# Altium footprint library chip.PcbLib: 89 footprints (part 4 of 6)
Each footprint in its own frame and in the unit in brackets; x right, y up, seen from the top. Pads: shape width x height; smd on the part's side, far side on the other; paste and mask are expansions set on the pad; w line width, h text height; cw(c..) or ccw(c..) is an arc to the next point about the centre after c.
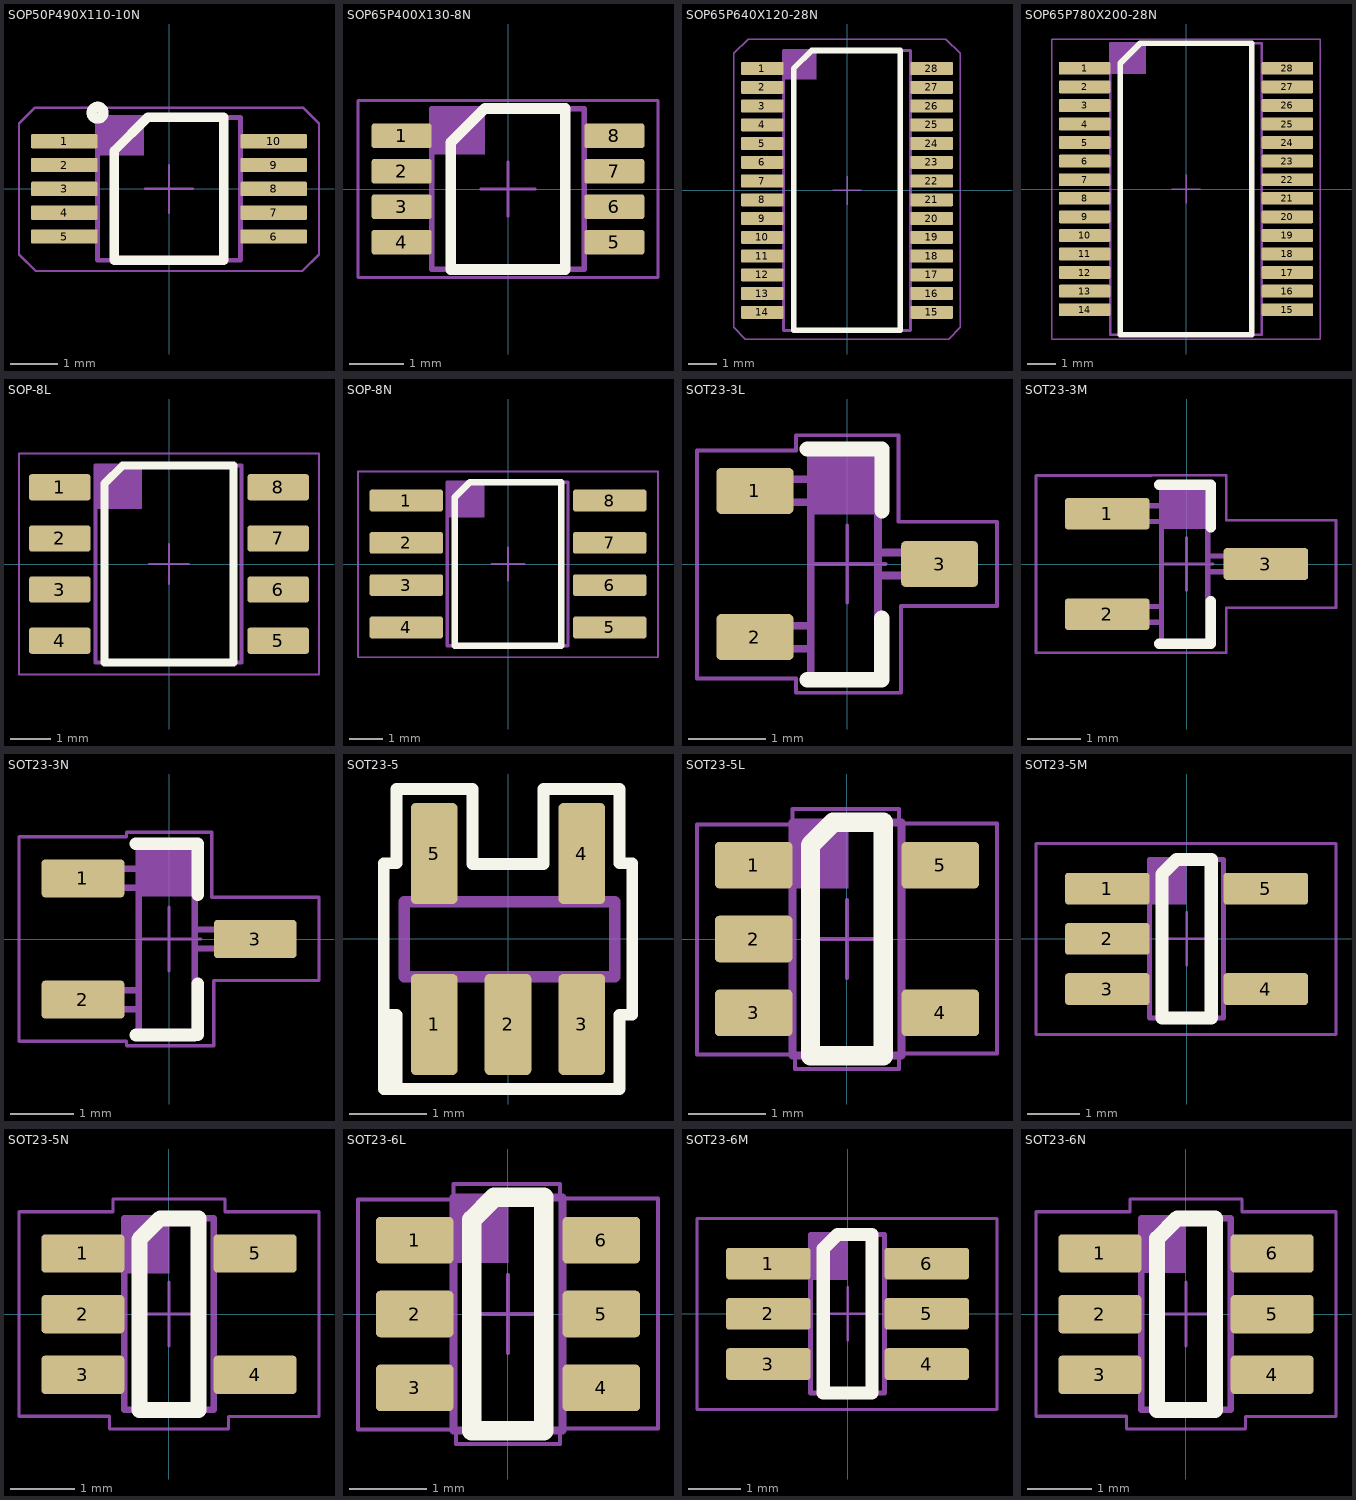
[diagram p3: the footprints below, top view; thin cyan lines are the x and y axes]

## SOP50P490X110-10N [mm]
pads (10):
  rrect20% 1.4x0.3 smd: 1(-2.2,1) 2(-2.2,0.5) 3(-2.2,0) 4(-2.2,-0.5) 5(-2.2,-1) 6(2.2,-1) 7(2.2,-0.5) 8(2.2,0) 9(2.2,0.5) 10(2.2,1)
Top Overlay:
  circle w0.22: c-1.5,1.6 r0.12
  lines w0.2: -1.15,-1.5 -1.15,0.8 -0.45,1.5 1.15,1.5 1.15,-1.5 -1.15,-1.5
Top Designator:
  text ".Designator" at -3.049,2.05 h0.6
Top Assembly:
  rectangle: -1.5,0.7 -0.525,1.5
  lines w0.1: -1.5,-1.5 1.5,-1.5 1.5,1.5 -1.5,1.5 -1.5,-1.5
Top Courtyard:
  lines w0.05: -0.5,0 0.5,0 ; 0,-0.5 0,0.5 ; -3.15,-1.375 -3.15,1.375 -2.825,1.7 2.825,1.7 3.15,1.375 3.15,-1.375 2.8,-1.725 -2.8,-1.725 -3.15,-1.375
3D body "LM5022MM_NOPB.stp": height 1.11, standoff 0.01, extent -2.463,-1.5 2.462,1.5

## SOP65P400X130-8N [mm]
pads (8):
  rrect20% 1.1x0.45 smd: 1(-1.95,0.975) 2(-1.95,0.325) 3(-1.95,-0.325) 4(-1.95,-0.975) 5(1.95,-0.975) 6(1.95,-0.325) 7(1.95,0.325) 8(1.95,0.975)
Top Overlay:
  lines w0.2: -1.05,-1.475 -1.05,0.85 -0.425,1.475 1.05,1.475 1.05,-1.475 -1.05,-1.475
Top Designator:
  text ".Designator" at -2.991,2.045 h0.6
Top Assembly:
  rectangle: -1.4,0.63 -0.42,1.475
  lines w0.1: -1.4,-1.475 -1.4,1.475 1.4,1.475 1.4,-1.475 -1.4,-1.475
Top Courtyard:
  lines w0.05: -0.5,0 0.5,0 ; 0,-0.5 0,0.5 ; -2.75,-1.623 2.75,-1.623 2.75,1.624 -2.75,1.624 -2.75,-1.623
3D body "SN74LVC2T45DCTR.stp": height 0.91, standoff 0, extent -2.01,-1.475 2.011,1.475

## SOP65P640X120-28N [mm]
pads (28):
  rrect20% 1.475x0.45 smd: 1(-2.938,4.225) 2(-2.938,3.575) 3(-2.938,2.925) 4(-2.938,2.275) 5(-2.938,1.625) 6(-2.938,0.975) 7(-2.938,0.325) 8(-2.938,-0.325) 9(-2.938,-0.975) 10(-2.938,-1.625) 11(-2.938,-2.275) 12(-2.938,-2.925) 13(-2.938,-3.575) 14(-2.938,-4.225) 15(2.938,-4.225) 16(2.938,-3.575) 17(2.938,-2.925) 18(2.938,-2.275) 19(2.938,-1.625) 20(2.938,-0.975) 21(2.938,-0.325) 22(2.938,0.325) 23(2.938,0.975) 24(2.938,1.625) 25(2.938,2.275) 26(2.938,2.925) 27(2.938,3.575) 28(2.938,4.225)
Top Overlay:
  lines w0.2: -1.85,-4.85 1.85,-4.85 1.85,4.85 -1.225,4.85 -1.85,4.225 -1.85,-4.85
Top Designator:
  text ".Designator" at -3.024,5.525 h0.6
Top Assembly:
  rectangle: -2.2,3.85 -1.05,4.85
  lines w0.1: -2.2,-4.85 2.2,-4.85 2.2,4.85 -2.2,4.85 -2.2,-4.85
Top Courtyard:
  lines w0.05: -0.5,0 0.5,0 ; 0,-0.5 0,0.5 ; -3.925,-4.75 -3.525,-5.15 3.525,-5.15 3.925,-4.75 3.925,4.75 3.425,5.25 -3.425,5.25 -3.925,4.75 -3.925,-4.75
3D body "TPS23861PW.stp": height 1.13, standoff 0, extent -3.2,-4.85 3.2,4.85

## SOP65P780X200-28N [mm]
pads (28):
  rrect20% 1.8x0.45 smd: 1(-3.55,4.225) 2(-3.55,3.575) 3(-3.55,2.925) 4(-3.55,2.275) 5(-3.55,1.625) 6(-3.55,0.975) 7(-3.55,0.325) 8(-3.55,-0.325) 9(-3.55,-0.975) 10(-3.55,-1.625) 11(-3.55,-2.275) 12(-3.55,-2.925) 13(-3.55,-3.575) 14(-3.55,-4.225) 15(3.55,-4.225) 16(3.55,-3.575) 17(3.55,-2.925) 18(3.55,-2.275) 19(3.55,-1.625) 20(3.55,-0.975) 21(3.55,-0.325) 22(3.55,0.325) 23(3.55,0.975) 24(3.55,1.625) 25(3.55,2.275) 26(3.55,2.925) 27(3.55,3.575) 28(3.55,4.225)
Top Overlay:
  lines w0.2: -2.3,-5.1 2.3,-5.1 2.3,5.1 -1.6,5.1 -2.3,4.4 -2.3,-5.1
Top Designator:
  text ".Designator" at -3.774,5.625 h0.6
Top Assembly:
  rectangle: -2.65,4.025 -1.4,5.1
  lines w0.1: -2.65,-5.1 2.65,-5.1 2.65,5.1 -2.65,5.1 -2.65,-5.1
Top Courtyard:
  lines w0.05: -0.5,0 0.5,0 ; 0,-0.5 0,0.5 ; -4.7,-5.25 4.7,-5.25 4.7,5.25 -4.7,5.25 -4.7,-5.25
3D body "MCP251863T-E_SSVAO.stp": height 2, standoff 0, extent -3.9,-5.1 3.9,5.1

## SOP-8L [mm] "SOIC127P600X175-8N"
pads (8):
  rrect20% 1.525x0.65 smd: 1(-2.712,1.905) 2(-2.712,0.635) 3(-2.712,-0.635) 4(-2.712,-1.905) 5(2.712,-1.905) 6(2.712,-0.635) 7(2.712,0.635) 8(2.712,1.905)
Top Overlay:
  lines w0.2: -1.6,-2.45 -1.6,2 -1.15,2.45 1.6,2.45 1.6,-2.45 -1.6,-2.45
Top Designator:
  text ".Designator" at -2.999,3.1 h0.6
Top Assembly:
  rectangle: -1.825,1.365 -0.665,2.45
  lines w0.1: -1.825,-2.45 -1.825,2.45 1.8,2.45 1.8,-2.45 -1.825,-2.45
Top Courtyard:
  lines w0.05: -0.5,0 0.5,0 ; 0,-0.5 0,0.5 ; -3.725,-2.75 -3.725,2.75 3.725,2.75 3.725,-2.75 -3.725,-2.75
3D body "SOP-8.STEP": height 1.87, standoff 0, extent -3.11,-2.5 3.11,2.5

## SOP-8N [mm] "SOIC127P600X175-8N"
pads (8):
  rrect20% 2.2x0.65 smd: 1(-3.05,1.905) 2(-3.05,0.635) 3(-3.05,-0.635) 4(-3.05,-1.905) 5(3.05,-1.905) 6(3.05,-0.635) 7(3.05,0.635) 8(3.05,1.905)
Top Overlay:
  lines w0.2: -1.6,-2.45 1.6,-2.45 1.6,2.45 -1.15,2.45 -1.6,2 -1.6,-2.45
Top Designator:
  text ".Designator" at -2.874,2.925 h0.6
Top Assembly:
  rectangle: -1.825,1.4 -0.7,2.45
  lines w0.1: -1.825,-2.45 1.8,-2.45 1.8,2.45 -1.825,2.45 -1.825,-2.45
Top Courtyard:
  lines w0.05: -0.5,0 0.5,0 ; 0,-0.5 0,0.5 ; -4.5,-2.8 4.5,-2.8 4.5,-1.425 4.5,-0.6 4.5,1.55 4.5,2.775 -4.5,2.775 -4.5,-2.8
3D body "SOP-8.STEP": height 1.87, standoff 0, extent -3.11,-2.5 3.11,2.5

## SOT23-3L [mm] "SOT23, 3-Leads, Body 2.9x1.3mm, Pitch 0.95mm, Lead Span 2.5mm, IPC High Density"
height 1.1
pads (3):
  rrect20% 1x0.6 smd: 1(-1.2,0.95) 2(-1.2,-0.95) 3(1.2,0)
Top Overlay:
  lines w0.2: -0.519,-1.505 0.448,-1.505 0.448,-0.705 ; -0.519,1.495 0.451,1.495 0.451,0.695
Top Designator:
  text ".Designator" at -2.849,2.275 h0.6
Top Assembly:
  rectangle: -0.458,0.642 0.385,1.477
  lines w0.1: -0.483,0.802 -1.246,0.802 -1.246,1.1 -0.478,1.1 ; -0.48,-1.1 -1.246,-1.1 -1.246,-0.802 -0.479,-0.802 ; 0.402,0.15 1.246,0.15 1.246,-0.148 0.408,-0.148 ; -0.474,-1.5 -0.474,1.5 0.4,1.5 0.4,-1.5 -0.474,-1.5
Top Courtyard:
  lines w0.05: -0.668,1.673 -0.668,1.475 -1.954,1.475 -1.954,-1.487 -0.668,-1.487 -0.668,-1.675 0.7,-1.675 0.7,-0.548 1.946,-0.548 1.946,0.55 0.668,0.55 0.668,1.675 -0.668,1.675 ; -0.5,0 0.5,0 ; 0,-0.5 0,0.5
3D body "SOT23-3.step": height 1.1, standoff 0, extent -1.25,-1.5 1.25,1.5

## SOT23-3M [mm] "SOT23, 3-Leads, Body 2.9x1.3mm, Pitch 0.95mm, Lead Span 2.5mm, IPC Low Density"
height 1.1
pads (3):
  rrect20% 1.6x0.6 smd: 1(-1.5,0.95) 2(-1.5,-0.95) 3(1.5,0)
Top Overlay:
  lines w0.2: -0.519,-1.505 0.46,-1.505 0.46,-0.705 ; -0.519,1.495 0.46,1.495 0.46,0.695
Top Designator:
  text ".Designator" at -2.749,2.275 h0.6
Top Assembly:
  rectangle: -0.474,0.665 0.385,1.5
  lines w0.1: -0.483,0.802 -1.246,0.802 -1.246,1.1 -0.478,1.1 ; -0.48,-1.1 -1.246,-1.1 -1.246,-0.802 -0.479,-0.802 ; 0.402,0.15 1.246,0.15 1.246,-0.148 0.408,-0.148 ; -0.474,-1.5 0.4,-1.5 0.4,1.5 -0.474,1.5 -0.474,-1.5
Top Courtyard:
  lines w0.05: -0.668,1.673 -2.845,1.673 -2.845,-1.675 -0.668,-1.675 0.75,-1.675 0.75,-0.826 2.825,-0.826 2.825,0.825 0.75,0.825 0.75,1.675 -0.668,1.675 ; -0.5,0 0.5,0 ; 0,-0.5 0,0.5
3D body "SOT23-3.step": height 1.1, standoff 0, extent -1.25,-1.5 1.25,1.5

## SOT23-3N [mm] "SOT23, 3-Leads, Body 2.9x1.3mm, Pitch 0.95mm, Lead Span 2.5mm, IPC Medium Density"
height 1.1
pads (3):
  rrect20% 1.3x0.6 smd: 1(-1.35,0.95) 2(-1.35,-0.95) 3(1.35,0)
Top Overlay:
  lines w0.2: -0.519,-1.505 0.4,-1.505 ; -0.519,1.495 0.45,1.495 0.45,0.695 ; 0.45,-1.5 0.45,-1.3 0.45,-0.9 0.45,-0.7
Top Designator:
  text ".Designator" at -2.999,2.2 h0.6
Top Assembly:
  rectangle: -0.474,0.665 0.385,1.5
  lines w0.1: -0.483,0.802 -1.246,0.802 -1.246,1.1 -0.478,1.1 ; -0.48,-1.1 -1.246,-1.1 -1.246,-0.802 -0.479,-0.802 ; 0.402,0.15 1.246,0.15 1.246,-0.148 0.408,-0.148 ; -0.474,-1.5 -0.474,1.5 0.402,1.5 0.402,-1.5 -0.474,-1.5
Top Courtyard:
  lines w0.05: -0.668,1.673 -0.668,1.602 -2.353,1.602 -2.353,-1.602 -0.668,-1.602 -0.668,-1.675 0.7,-1.675 0.7,-0.65 2.35,-0.65 2.35,0.654 0.668,0.654 0.668,1.675 -0.668,1.675 ; -0.5,0 0.5,0 ; 0,-0.5 0,0.5
3D body "SOT23-3.step": height 1.1, standoff 0, extent -1.25,-1.5 1.25,1.5

## SOT23-5 [mm]
height 0.9
pads (5):
  rrect20% 0.6x1.3 smd: 1(-0.95,-1.1) 2(0,-1.1) 3(0.95,-1.1) 4(0.95,1.1) 5(-0.95,1.1)
Top Overlay:
  lines w0.15: -1.518,-1.93 -1.518,-0.975 ; -1.6,-1.93 -1.436,-1.93 ; -1.6,-1.93 -1.6,-1.93 ; -1.6,-1.93 -1.6,-0.975 ; -1.6,-0.975 -1.436,-0.975 -1.436,-1.93 ; -1.6,-0.975 -1.6,0.975 -1.436,0.975 -1.436,1.93 -0.457,1.93 -0.457,0.965 0.457,0.965 0.457,1.93 1.436,1.93 1.436,0.974 1.6,0.974 1.6,-0.976 1.436,-0.976 1.436,-1.931 -1.436,-1.93
  text "." at -2.261,-1.676 h5
Bottom Dimensions:
  lines w0.15: -1.105,-0.5 -1.105,-1.1 -0.795,-1.1 -0.795,-0.5 ; -1.105,0.482 -1.105,1.1 -0.795,1.1 -0.795,0.482 ; -0.155,-0.498 -0.155,-1.1 0.155,-1.1 0.155,-0.486 ; 0.795,-0.489 0.795,-1.1 1.105,-1.1 1.105,-0.492 ; 0.795,0.482 0.795,1.1 1.105,1.1 1.105,0.489 ; -1.336,-0.487 -1.336,0.478 1.375,0.478 1.375,-0.487 -1.336,-0.487
  text ".Designator" at -1.95,2.25 h1
3D body "SOT23-5L.STEP": height 1.1, standoff 0, extent -1.5,-1.25 1.5,1.25

## SOT23-5L [mm] "SOT23, 5-Leads, Body 2.9x1.3mm, Pitch 0.95mm, Lead Span 2.5mm, IPC High Density"
height 1.1
pads (5):
  rrect20% 1x0.6 smd: 1(-1.2,0.95) 2(-1.2,0) 3(-1.2,-0.95) 4(1.2,-0.95) 5(1.2,0.95)
Top Overlay:
  lines w0.25: -0.47,-1.5 0.464,-1.5 0.464,1.5 -0.178,1.5 -0.47,1.208 -0.47,-1.5
Top Designator:
  text ".Designator" at -2.824,2.225 h0.6
Top Assembly:
  rectangle: -0.699,0.648 0.016,1.46
  lines w0.1: -0.747,-1.1 -1.246,-1.1 -1.246,-0.802 -0.747,-0.802 ; -0.747,-0.15 -1.246,-0.15 -1.246,0.148 -0.747,0.148 ; -0.747,0.802 -1.246,0.802 -1.246,1.1 -0.747,1.1 ; 0.747,-1.1 1.246,-1.1 1.246,-0.802 0.747,-0.802 ; 0.747,0.802 1.246,0.802 1.246,1.1 0.747,1.1 ; -0.7,-1.5 0.7,-1.5 0.7,1.5 -0.7,1.5 -0.7,-1.5
Top Courtyard:
  lines w0.05: -0.5,0 0.5,0 ; 0,-0.5 0,0.5 ; 0.668,-1.675 -0.668,-1.675 -0.668,-1.487 -1.93,-1.487 -1.93,1.475 -0.7,1.475 -0.7,1.675 0.668,1.675 0.668,1.487 1.93,1.487 1.93,-1.475 0.668,-1.475 0.668,-1.673
3D body "SOT23-5.step": height 1.1, standoff 0, extent -1.253,-1.497 1.247,1.503

## SOT23-5M [mm] "SOT23, 5-Leads, Body 2.9x1.3mm, Pitch 0.95mm, Lead Span 2.5mm, IPC Low Density"
height 1.1
pads (5):
  rrect20% 1.6x0.6 smd: 1(-1.5,0.95) 2(-1.5,0) 3(-1.5,-0.95) 4(1.5,-0.95) 5(1.5,0.95)
Top Overlay:
  lines w0.25: -0.467,-1.5 -0.467,1.227 -0.194,1.5 0.466,1.5 0.466,-1.5 -0.467,-1.5
Top Designator:
  text ".Designator" at -2.749,2.275 h0.6
Top Assembly:
  rectangle: -0.659,0.653 0.002,1.471
  lines w0.1: -0.747,-1.1 -1.246,-1.1 -1.246,-0.802 -0.747,-0.802 ; -0.747,-0.15 -1.246,-0.15 -1.246,0.148 -0.747,0.148 ; -0.747,0.802 -1.246,0.802 -1.246,1.1 -0.747,1.1 ; 0.747,-1.1 1.246,-1.1 1.246,-0.802 0.747,-0.802 ; 0.747,0.802 1.246,0.802 1.246,1.1 0.747,1.1 ; -0.7,-1.5 0.7,-1.5 0.7,1.5 -0.7,1.5 -0.7,-1.5
Top Courtyard:
  lines w0.05: -0.5,0 0.5,0 ; 0,-0.5 0,0.5 ; -2.85,-1.811 -0.931,-1.811 0.93,-1.811 2.828,-1.811 2.828,1.805 0.875,1.805 -0.875,1.805 -2.85,1.805 -2.85,-1.811
3D body "SOT23-5.step": height 1.1, standoff 0, extent -1.275,-1.5 1.225,1.5

## SOT23-5N [mm] "SOT23, 5-Leads, Body 2.9x1.3mm, Pitch 0.95mm, Lead Span 2.5mm, IPC Medium Density"
height 1.1
pads (5):
  rrect20% 1.3x0.6 smd: 1(-1.35,0.95) 2(-1.35,0) 3(-1.35,-0.95) 4(1.35,-0.95) 5(1.35,0.95)
Top Overlay:
  lines w0.25: -0.464,-1.5 0.461,-1.5 0.461,1.5 -0.136,1.5 -0.464,1.172 -0.464,-1.5
Top Designator:
  text ".Designator" at -2.749,2.275 h0.6
Top Assembly:
  rectangle: -0.688,0.635 0.011,1.517
  lines w0.1: -0.747,-1.1 -1.246,-1.1 -1.246,-0.802 -0.747,-0.802 ; -0.747,0.802 -1.246,0.802 -1.246,1.1 -0.747,1.1 ; -0.701,-0.149 -1.241,-0.149 -1.241,0.149 -0.701,0.149 ; 0.747,-1.1 1.246,-1.1 1.246,-0.802 0.747,-0.802 ; 0.747,0.802 1.246,0.802 1.246,1.1 0.747,1.1 ; -0.7,-1.5 -0.7,1.5 0.7,1.5 0.7,-1.5 -0.7,-1.5
Top Courtyard:
  lines w0.05: -0.5,0 0.5,0 ; 0,-0.5 0,0.5 ; -2.35,-1.6 -2.35,1.603 -0.875,1.603 -0.875,1.805 0.875,1.805 0.875,1.604 2.35,1.604 2.35,-1.603 0.93,-1.603 0.93,-1.8 -0.931,-1.8 -0.931,-1.6 -2.35,-1.6
3D body "SOT23-5.step": height 1.1, standoff 0, extent -1.25,-1.5 1.25,1.5

## SOT23-6L [mm] "SOT23, 6-Leads, Body 2.9x1.3mm, Pitch 0.95mm, Lead Span 2.5mm, IPC High Density"
height 1.1
pads (6):
  rrect20% 1x0.6 smd: 1(-1.2,0.95) 2(-1.2,0) 3(-1.2,-0.95) 4(1.2,-0.95) 5(1.2,0) 6(1.2,0.95)
Top Overlay:
  lines w0.25: -0.465,-1.5 -0.465,1.213 -0.178,1.5 0.463,1.5 0.463,-1.5 -0.465,-1.5
Top Designator:
  text ".Designator" at -2.774,2.125 h0.6
Top Assembly:
  rectangle: -0.676,0.659 0.004,1.493
  lines w0.1: -0.747,-1.1 -1.246,-1.1 -1.246,-0.802 -0.747,-0.802 ; -0.747,-0.15 -1.246,-0.15 -1.246,0.148 -0.747,0.148 ; -0.747,0.802 -1.246,0.802 -1.246,1.1 -0.747,1.1 ; 0.747,-1.1 1.246,-1.1 1.246,-0.802 0.747,-0.802 ; 0.747,-0.148 1.246,-0.148 1.246,0.15 0.747,0.15 ; 0.747,0.802 1.246,0.802 1.246,1.1 0.747,1.1 ; -0.7,-1.5 -0.7,1.5 0.7,1.5 0.7,-1.5 -0.7,-1.5
Top Courtyard:
  lines w0.05: -0.5,0 0.5,0 ; 0,-0.5 0,0.5 ; 0.668,-1.675 -0.668,-1.675 -0.668,-1.487 -1.93,-1.487 -1.93,1.475 -0.7,1.475 -0.7,1.675 0.668,1.675 0.668,1.487 1.93,1.487 1.93,-1.475 0.668,-1.475 0.668,-1.673
3D body "SOT23-6.step": height 1.1, standoff 0, extent -1.253,-1.497 1.247,1.503

## SOT23-6M [mm] "SOT23, 6-Leads, Body 2.9x1.3mm, Pitch 0.95mm, Lead Span 2.5mm, IPC Low Density"
height 1.1
pads (6):
  rrect20% 1.6x0.6 smd: 1(-1.5,0.95) 2(-1.5,0) 3(-1.5,-0.95) 4(1.5,-0.95) 5(1.5,0) 6(1.5,0.95)
Top Overlay:
  lines w0.25: -0.462,-1.5 -0.462,1.232 -0.194,1.5 0.464,1.5 0.464,-1.5 -0.462,-1.5
Top Designator:
  text ".Designator" at -2.749,2.275 h0.6
Top Assembly:
  rectangle: -0.69,0.639 -0.003,1.505
  lines w0.1: -0.747,-1.1 -1.246,-1.1 -1.246,-0.802 -0.747,-0.802 ; -0.747,-0.15 -1.246,-0.15 -1.246,0.148 -0.747,0.148 ; -0.747,0.802 -1.246,0.802 -1.246,1.1 -0.747,1.1 ; 0.747,-1.1 1.246,-1.1 1.246,-0.802 0.747,-0.802 ; 0.747,-0.148 1.246,-0.148 1.246,0.15 0.747,0.15 ; 0.747,0.802 1.246,0.802 1.246,1.1 0.747,1.1 ; -0.7,-1.5 0.7,-1.5 0.7,1.5 -0.7,1.5 -0.7,-1.5
Top Courtyard:
  lines w0.05: -0.5,0 0.5,0 ; 0,-0.5 0,0.5 ; -2.85,-1.811 -0.931,-1.811 0.93,-1.811 2.828,-1.811 2.828,1.805 0.875,1.805 -0.875,1.805 -2.85,1.805 -2.85,-1.811
3D body "SOT23-6.step": height 1.1, standoff 0, extent -1.275,-1.5 1.225,1.5

## SOT23-6N [mm] "SOT23, 6-Leads, Body 2.9x1.3mm, Pitch 0.95mm, Lead Span 2.5mm, IPC Medium Density"
height 1.1
pads (6):
  rrect20% 1.3x0.6 smd: 1(-1.35,0.95) 2(-1.35,0) 3(-1.35,-0.95) 4(1.35,-0.95) 5(1.35,0) 6(1.35,0.95)
Top Overlay:
  lines w0.25: -0.454,-1.5 0.456,-1.5 0.456,1.5 -0.136,1.5 -0.454,1.182 -0.454,-1.5
Top Designator:
  text ".Designator" at -2.874,2.325 h0.6
Top Assembly:
  rectangle: -0.664,0.647 -0.004,1.53
  lines w0.1: -0.747,-1.1 -1.246,-1.1 -1.246,-0.802 -0.747,-0.802 ; -0.747,0.802 -1.246,0.802 -1.246,1.1 -0.747,1.1 ; -0.701,-0.149 -1.241,-0.149 -1.241,0.149 -0.701,0.149 ; 0.701,-0.149 1.244,-0.149 1.244,0.149 0.701,0.149 ; 0.747,-1.1 1.246,-1.1 1.246,-0.802 0.747,-0.802 ; 0.747,0.802 1.246,0.802 1.246,1.1 0.747,1.1 ; -0.7,-1.5 -0.7,1.5 0.7,1.5 0.7,-1.5 -0.7,-1.5
Top Courtyard:
  lines w0.05: -0.5,0 0.5,0 ; 0,-0.5 0,0.5 ; -2.35,-1.6 -2.35,1.603 -0.875,1.603 -0.875,1.805 0.875,1.805 0.875,1.604 2.35,1.604 2.35,-1.603 0.93,-1.603 0.93,-1.8 -0.931,-1.8 -0.931,-1.6 -2.35,-1.6
3D body "SOT23-6.step": height 1.1, standoff 0, extent -1.25,-1.5 1.25,1.5